# EAGLE library part KSZ8995MA (library micrel)
5-Port 10/100 Integrated Managed Switch
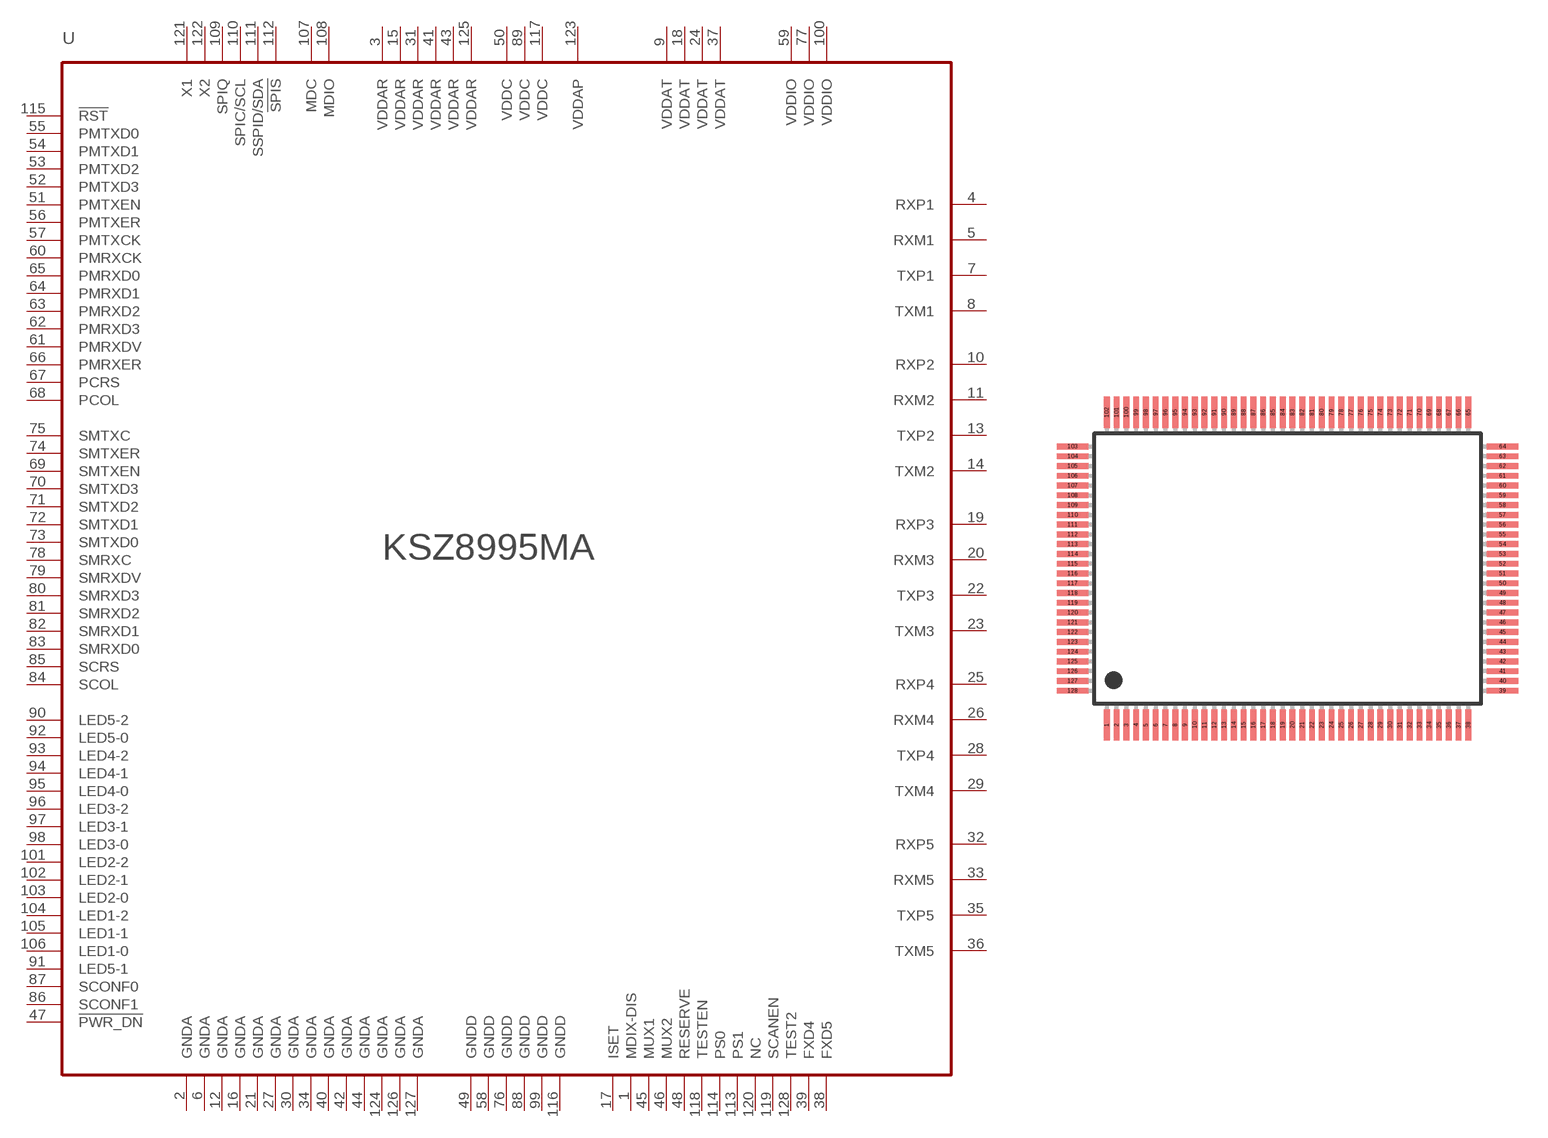
[diagram p4: symbol with the pads of PQFP128-PQ; footprint PQFP128-PQ]

Designator prefix U

## KSZ8995MA  [PQFP128-PQ]
1  MDIX-DIS  in
2  GNDA  pwr
3  VDDAR  pwr
4  RXP1  in
5  RXM1  in
6  GNDA  pwr
7  TXP1  out
8  TXM1  out
9  VDDAT  pwr
10  RXP2  in
11  RXM2  in
12  GNDA  pwr
13  TXP2  out
14  TXM2  out
15  VDDAR  pwr
16  GNDA  pwr
17  ISET  pas
18  VDDAT  pwr
19  RXP3  in
20  RXM3  in
21  GNDA  pwr
22  TXP3  out
23  TXM3  out
24  VDDAT  pwr
25  RXP4  in
26  RXM4  in
27  GNDA  pwr
28  TXP4  out
29  TXM4  out
30  GNDA  pwr
31  VDDAR  pwr
32  RXP5  in
33  RXM5  in
34  GNDA  pwr
35  TXP5  out
36  TXM5  out
37  VDDAT  pwr
38  FXD5  pas
39  FXD4  pas
40  GNDA  pwr
41  VDDAR  pwr
42  GNDA  pwr
43  VDDAR  pwr
44  GNDA  pwr
45  MUX1  nc
46  MUX2  nc
47  !PWR_DN!  pas
48  RESERVE  nc
49  GNDD  pwr
50  VDDC  pwr
51  PMTXEN
52  PMTXD3
53  PMTXD2
54  PMTXD1
55  PMTXD0
56  PMTXER
57  PMTXCK
58  GNDD  pwr
59  VDDIO  pwr
60  PMRXCK
61  PMRXDV
62  PMRXD3
63  PMRXD2
64  PMRXD1
65  PMRXD0
66  PMRXER
67  PCRS
68  PCOL
69  SMTXEN
70  SMTXD3
71  SMTXD2
72  SMTXD1
73  SMTXD0
74  SMTXER
75  SMTXC
76  GNDD  pwr
77  VDDIO  pwr
78  SMRXC
79  SMRXDV
80  SMRXD3
81  SMRXD2
82  SMRXD1
83  SMRXD0
84  SCOL
85  SCRS
86  SCONF1  pas
87  SCONF0  pas
88  GNDD  pwr
89  VDDC  pwr
90  LED5-2
91  LED5-1
92  LED5-0
93  LED4-2
94  LED4-1
95  LED4-0
96  LED3-2
97  LED3-1
98  LED3-0
99  GNDD  pwr
100  VDDIO  pwr
101  LED2-2
102  LED2-1
103  LED2-0
104  LED1-2
105  LED1-1
106  LED1-0
107  MDC
108  MDIO
109  SPIQ
110  SPIC/SCL
111  SSPID/SDA
112  !SPIS!
113  PS1  pas
114  PS0  pas
115  !RST!  in
116  GNDD  pwr
117  VDDC  pwr
118  TESTEN  pas
119  SCANEN  nc
120  NC  nc
121  X1
122  X2
123  VDDAP  pwr
124  GNDA  pwr
125  VDDAR  pwr
126  GNDA  pwr
127  GNDA  pwr
128  TEST2  nc

## Footprint PQFP128-PQ (pad centres in mm)
PQFP 14 x 20 mm 128 Lead 128-Pin PQFP (PQ)
smd 0.3 x 1.6: 1 -9.25,-8; 2 -8.75,-8; 3 -8.25,-8; 4 -7.75,-8; 5 -7.25,-8; 6 -6.75,-8; 7 -6.25,-8; 8 -5.75,-8; 9 -5.25,-8; 10 -4.75,-8; 11 -4.25,-8; 12 -3.75,-8; 13 -3.25,-8; 14 -2.75,-8; 15 -2.25,-8; 16 -1.75,-8; 17 -1.25,-8; 18 -0.75,-8; 19 -0.25,-8; 20 0.25,-8; 21 0.75,-8; 22 1.25,-8; 23 1.75,-8; 24 2.25,-8; 25 2.75,-8; 26 3.25,-8; 27 3.75,-8; 28 4.25,-8; 29 4.75,-8; 30 5.25,-8; 31 5.75,-8; 32 6.25,-8; 33 6.75,-8; 34 7.25,-8; 35 7.75,-8; 36 8.25,-8; 37 8.75,-8; 38 9.25,-8; 65 9.25,8; 66 8.75,8; 67 8.25,8; 68 7.75,8; 69 7.25,8; 70 6.75,8; 71 6.25,8; 72 5.75,8; 73 5.25,8; 74 4.75,8; 75 4.25,8; 76 3.75,8; 77 3.25,8; 78 2.75,8; 79 2.25,8; 80 1.75,8; 81 1.25,8; 82 0.75,8; 83 0.25,8; 84 -0.25,8; 85 -0.75,8; 86 -1.25,8; 87 -1.75,8; 88 -2.25,8; 89 -2.75,8; 90 -3.25,8; 91 -3.75,8; 92 -4.25,8; 93 -4.75,8; 94 -5.25,8; 95 -5.75,8; 96 -6.25,8; 97 -6.75,8; 98 -7.25,8; 99 -7.75,8; 100 -8.25,8; 101 -8.75,8; 102 -9.25,8
smd 1.6 x 0.3: 39 11,-6.25; 40 11,-5.75; 41 11,-5.25; 42 11,-4.75; 43 11,-4.25; 44 11,-3.75; 45 11,-3.25; 46 11,-2.75; 47 11,-2.25; 48 11,-1.75; 49 11,-1.25; 50 11,-0.75; 51 11,-0.25; 52 11,0.25; 53 11,0.75; 54 11,1.25; 55 11,1.75; 56 11,2.25; 57 11,2.75; 58 11,3.25; 59 11,3.75; 60 11,4.25; 61 11,4.75; 62 11,5.25; 63 11,5.75; 64 11,6.25; 103 -11,6.25; 104 -11,5.75; 105 -11,5.25; 106 -11,4.75; 107 -11,4.25; 108 -11,3.75; 109 -11,3.25; 110 -11,2.75; 111 -11,2.25; 112 -11,1.75; 113 -11,1.25; 114 -11,0.75; 115 -11,0.25; 116 -11,-0.25; 117 -11,-0.75; 118 -11,-1.25; 119 -11,-1.75; 120 -11,-2.25; 121 -11,-2.75; 122 -11,-3.25; 123 -11,-3.75; 124 -11,-4.25; 125 -11,-4.75; 126 -11,-5.25; 127 -11,-5.75; 128 -11,-6.25